# Altium footprint library 1SH-A-02-TS-SMT.PcbLib: 1 footprints
Each footprint in its own frame and in the unit in brackets; x right, y up, seen from the top. Pads: shape width x height; smd on the part's side, far side on the other; paste and mask are expansions set on the pad; w line width, h text height; cw(c..) or ccw(c..) is an arc to the next point about the centre after c.
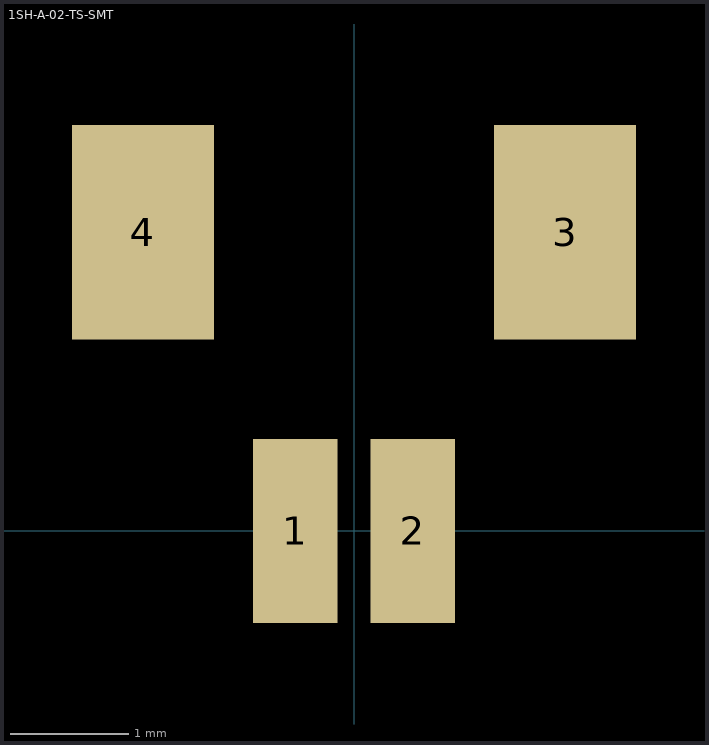
[diagram p0: the footprint, top view; thin cyan lines are the x and y axes]

## 1SH-A-02-TS-SMT [mil]
pads (4):
  rect 28x61 smd: 1(-19.5,0) 2(19.5,0)
  rect 47x71 smd: 3(70,99) 4(-70,99)
3D body: height 167, standoff 0, extent -78.5,30 78.5,144